# Altium integrated library Capacitor 0805.IntLib: 23 symbols
Pins are listed as number, name and electrical type; pins without a type are passive.

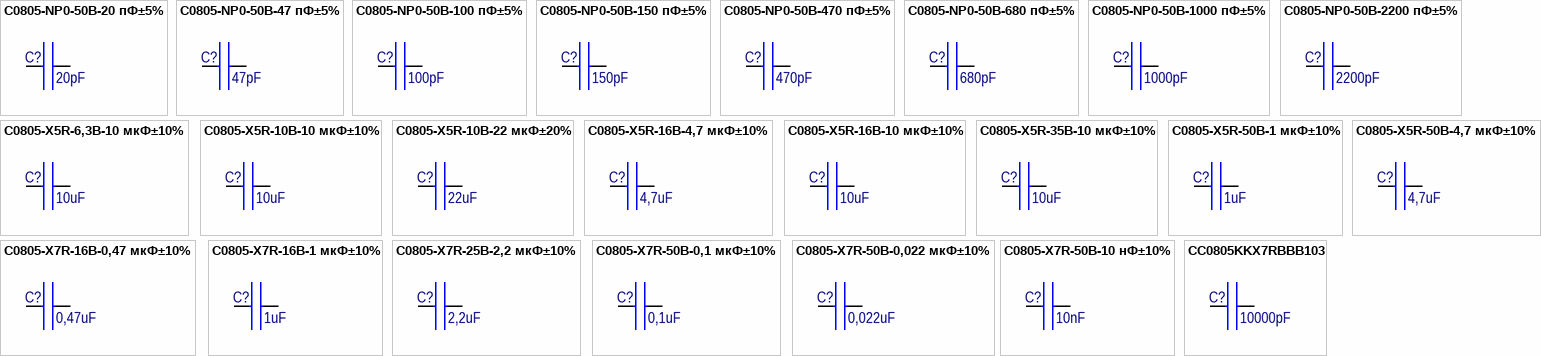
[diagram p0: symbols C0805-NP0-50В-20 пФ±5% to CC0805KKX7RBBB103]

## C0805-NP0-50В-20 пФ±5%
designator C?  value 20pF
CAP CER 20PF 50V 5% NP0 0805; Manufacturer: Murata Electronics; ManufacturerPartNumber: GQM2195C1H200J; Group: 9170; RegulationProcent: 10; TypeName: Конденсатор; Published: 07.08.2014; Publisher: Stanchik A; Distributor: Digi-Key; DistributorPartNumber: 490-3607-6-ND; LatestRevisionDate: 07.08.2014; Package: 2012 [0805]; Library: Capacitor 0805
footprint CAPC2012NX09  [0805] (Chip Capacitor, Body 2.0x1.3mm, IPC Medium Density)
pins: 1, 2

## C0805-NP0-50В-47 пФ±5%
designator C?  value 47pF
CAP CER 47PF 50V 5% NP0 0805; Manufacturer: Murata Electronics; ManufacturerPartNumber: GQM2195C1H470J; Group: 9170; RegulationProcent: 10; TypeName: Конденсатор; Published: 07.05.2014; Publisher: Stanchik A; Distributor: Digi-Key; DistributorPartNumber: 490-3612-6-ND; LatestRevisionDate: 10.07.2014; Package: 2012 [0805]; Library: Capacitor 0805
footprint CAPC2012NX09  [0805] (Chip Capacitor, Body 2.0x1.3mm, IPC Medium Density)
pins: 1, 2

## C0805-NP0-50В-100 пФ±5%
designator C?  value 100pF
CAP CER 100PF 50V 5% NP0 0805; Manufacturer: Murata Electronics; ManufacturerPartNumber: GRM2165C1H101J; Group: 9170; RegulationProcent: 10; TypeName: Конденсатор; Published: 07.05.2014; Publisher: Stanchik A; Distributor: Digi-Key; DistributorPartNumber: 490-1615-6-ND; LatestRevisionDate: 10.07.2014; Package: 2012 [0805]; Library: Capacitor 0805
footprint CAPC2012NX06  [0805] (Chip Capacitor, Body 2.0x1.3mm, IPC Medium Density)
pins: 1, 2

## C0805-NP0-50В-150 пФ±5%
designator C?  value 150pF
CAP CER 150PF 50V 5% NP0 0805; Manufacturer: Murata Electronics; ManufacturerPartNumber: GRM2165C1H151J; Group: 9170; RegulationProcent: 10; TypeName: Конденсатор; Published: 03.12.2014; Publisher: Stanchik A; Distributor: Digi-Key; DistributorPartNumber: 490-3315-1-ND; LatestRevisionDate: 03.12.2014; Package: 2012 [0805]; Library: Capacitor 0805
footprint CAPC2012NX06  [0805] (Chip Capacitor, Body 2.0x1.3mm, IPC Medium Density)
pins: 1, 2

## C0805-NP0-50В-470 пФ±5%
designator C?  value 470pF
CAP CER 470PF 50V 5% NP0 0805; Manufacturer: Murata Electronics; ManufacturerPartNumber: GRM2165C1H471J; Group: 9170; RegulationProcent: 10; TypeName: Конденсатор; Published: 07.05.2014; Publisher: Stanchik A; Distributor: Digi-Key; DistributorPartNumber: 490-1617-6-ND; LatestRevisionDate: 10.07.2014; Package: 2012 [0805]; Library: Capacitor 0805
footprint CAPC2012NX06  [0805] (Chip Capacitor, Body 2.0x1.3mm, IPC Medium Density)
pins: 1, 2

## C0805-NP0-50В-680 пФ±5%
designator C?  value 680pF
CAP CER 680PF 50V 5% NP0 0805; Manufacturer: Murata Electronics; ManufacturerPartNumber: GRM21BR71H105K; Group: 9170; RegulationProcent: 10; TypeName: Конденсатор; Published: 07.08.2014; Publisher: Stanchik A; Distributor: Digi-Key; DistributorPartNumber: 490-1619-6-ND; LatestRevisionDate: 07.08.2014; Package: 2012 [0805]; Library: Capacitor 0805
footprint CAPC2012NX13  [0805] (Chip Capacitor, Body 2.0x1.3mm, IPC Medium Density)
pins: 1, 2

## C0805-NP0-50В-1000 пФ±5%
designator C?  value 1000pF
CAP CER 1000PF 50V 5% NP0 0805; Manufacturer: Murata Electronics; ManufacturerPartNumber: GRM2165C1H102J; Group: 9170; RegulationProcent: 10; TypeName: Конденсатор; Published: 07.05.2014; Publisher: Stanchik A; Distributor: Digi-Key; DistributorPartNumber: 490-8285-6-ND; LatestRevisionDate: 10.07.2014; Package: 2012 [0805]; Library: Capacitor 0805
footprint CAPC2012NX06  [0805] (Chip Capacitor, Body 2.0x1.3mm, IPC Medium Density)
pins: 1, 2

## C0805-NP0-50В-2200 пФ±5%
designator C?  value 2200pF
CAP CER 2200PF 50V C0G/NP0 0805; Manufacturer: Murata Electronics; ManufacturerPartNumber: GRM2165C1H222J; Group: 9170; RegulationProcent: 10; TypeName: Конденсатор; Published: 06.06.2017; Publisher: Stanchik A; Distributor: Digi-Key; DistributorPartNumber: 490-1628-1-ND; LatestRevisionDate: 06.06.2017; Package: 2012 [0805]; Library: Capacitor 0805
footprint CAPC2012NX06  [0805] (Chip Capacitor, Body 2.0x1.3mm, IPC Medium Density)
pins: 1, 2

## C0805-X5R-6,3В-10 мкФ±10%
designator C?  value 10uF
CAP CER 10UF 6.3V X5R 0805; Manufacturer: Murata Electronics; ManufacturerPartNumber: GRM219R60J106K; Group: 9170; RegulationProcent: 10; TypeName: Конденсатор; Published: 28.04.2017; Publisher: Stanchik A; Distributor: Digi-Key; DistributorPartNumber: 490-3340-1-ND; LatestRevisionDate: 28.04.2017; Package: 2012 [0805]; Library: Capacitor 0805
footprint CAPC2012NX09  [0805] (Chip Capacitor, Body 2.0x1.3mm, IPC Medium Density)
pins: 1, 2

## C0805-X5R-10В-10 мкФ±10%
designator C?  value 10uF
CAP CER 10UF 10V X5R 0805; Manufacturer: Murata Electronics; ManufacturerPartNumber: GRM21BR61A106K; Group: 9170; RegulationProcent: 10; TypeName: Конденсатор; Published: 02.05.2017; Publisher: Stanchik A; Distributor: Digi-Key; DistributorPartNumber: 490-6472-1-ND; LatestRevisionDate: 02.05.2017; Package: 2012 [0805]; Library: Capacitor 0805
footprint CAPC2012NX13  [0805] (Chip Capacitor, Body 2.0x1.3mm, IPC Medium Density)
pins: 1, 2

## C0805-X5R-10В-22 мкФ±20%
designator C?  value 22uF
CAP CER 22UF 10V X5R 0805; Manufacturer: Murata Electronics; ManufacturerPartNumber: GRM21BR61A226M; Group: 9170; RegulationProcent: 10; TypeName: Конденсатор; Published: 02.05.2017; Publisher: Stanchik A; Distributor: Digi-Key; DistributorPartNumber: 490-10746-1-ND; LatestRevisionDate: 02.05.2017; Package: 2012 [0805]; Library: Capacitor 0805
footprint CAPC2012NX13  [0805] (Chip Capacitor, Body 2.0x1.3mm, IPC Medium Density)
pins: 1, 2

## C0805-X5R-16В-4,7 мкФ±10%
designator C?  value 4,7uF
CAP CER 4.7UF 16V 10% X5R 0805; Manufacturer: Murata Electronics; ManufacturerPartNumber: GRM21BR61C475K; Group: 9170; RegulationProcent: 10; TypeName: Конденсатор; Published: 05.08.2014; Publisher: Stanchik A; Distributor: Digi-Key; DistributorPartNumber: 490-3338-6-ND; LatestRevisionDate: 05.08.2014; Package: 2012 [0805]; Library: Capacitor 0805
footprint CAPC2012NX13  [0805] (Chip Capacitor, Body 2.0x1.3mm, IPC Medium Density)
pins: 1, 2

## C0805-X5R-16В-10 мкФ±10%
designator C?  value 10uF
CAP CER 10UF 16V X5R 0805; Manufacturer: Murata Electronics; ManufacturerPartNumber: GRM21BR61C106K; Group: 9170; RegulationProcent: 10; TypeName: Конденсатор; Published: 28.04.2017; Publisher: Stanchik A; Distributor: Digi-Key; DistributorPartNumber: 490-6473-1-ND; LatestRevisionDate: 28.04.2017; Package: 2012 [0805]; Library: Capacitor 0805
footprint CAPC2012NX13  [0805] (Chip Capacitor, Body 2.0x1.3mm, IPC Medium Density)
pins: 1, 2

## C0805-X5R-35В-10 мкФ±10%
designator C?  value 10uF
CAP CER 10UF 35V 10% X5R 0805; Manufacturer: TDK Corporation; ManufacturerPartNumber: C2012X5R1V106K085AC; Group: 9170; RegulationProcent: 10; TypeName: Конденсатор; Published: 05.08.2014; Publisher: Stanchik A; Distributor: Digi-Key; DistributorPartNumber: 445-14417-6-ND; LatestRevisionDate: 05.08.2014; Package: 2012 [0805]; Library: Capacitor 0805
footprint CAPC2012NX09  [0805] (Chip Capacitor, Body 2.0x1.3mm, IPC Medium Density)
pins: 1, 2

## C0805-X5R-50В-1 мкФ±10%
designator C?  value 1uF
CAP CER 1UF 50V X5R 0805; Manufacturer: Murata Electronics; ManufacturerPartNumber: GRM219R61H105K; Group: 9170; RegulationProcent: 10; TypeName: Конденсатор; Published: 12.07.2017; Publisher: Stanchik A; Distributor: Digi-Key; DistributorPartNumber: 490-10743-1-ND; LatestRevisionDate: 12.07.2017; Package: 2012 [0805]; Library: Capacitor 0805
footprint CAPC2012NX09  [0805] (Chip Capacitor, Body 2.0x1.3mm, IPC Medium Density)
pins: 1, 2

## C0805-X5R-50В-4,7 мкФ±10%
designator C?  value 4,7uF
CAP CER 4.7UF 50V X5R 0805; Manufacturer: Murata Electronics; ManufacturerPartNumber: GRM21BR61H475K; Group: 9170; RegulationProcent: 10; TypeName: Конденсатор; Published: 11.12.2017; Publisher: Stanchik A; Distributor: Digi-Key; DistributorPartNumber: 490-10751-1-ND; LatestRevisionDate: 11.12.2017; Package: 2012 [0805]; Library: Capacitor 0805
footprint CAPC2012NX13  [0805] (Chip Capacitor, Body 2.0x1.3mm, IPC Medium Density)
pins: 1, 2

## C0805-X7R-16В-0,47 мкФ±10%
designator C?  value 0,47uF
CAP CER 0.47UF 16V 10% X7R 0805; Manufacturer: Murata Electronics; ManufacturerPartNumber: GRM21BR71C474K; Group: 9170; RegulationProcent: 10; TypeName: Конденсатор; Published: 07.08.2014; Publisher: Stanchik A; Distributor: Digi-Key; DistributorPartNumber: 490-3333-6-ND; LatestRevisionDate: 07.08.2014; Package: 2012 [0805]; Library: Capacitor 0805
footprint CAPC2012NX13  [0805] (Chip Capacitor, Body 2.0x1.3mm, IPC Medium Density)
pins: 1, 2

## C0805-X7R-16В-1 мкФ±10%
designator C?  value 1uF
CAP CER 1UF 16V X7R 0805; Manufacturer: Murata Electronics; ManufacturerPartNumber: GRM21BR71C105K; Group: 9170; RegulationProcent: 10; TypeName: Конденсатор; Published: 08.02.2018; Publisher: Stanchik A; Distributor: Digi-Key; DistributorPartNumber: 490-1691-1-ND; LatestRevisionDate: 08.02.2018; Package: 2012 [0805]; Library: Capacitor 0805
footprint CAPC2012NX13  [0805] (Chip Capacitor, Body 2.0x1.3mm, IPC Medium Density)
pins: 1, 2

## C0805-X7R-25В-2,2 мкФ±10%
designator C?  value 2,2uF
CAP CER 2.2UF 25V 10% X7R 0805; Manufacturer: Murata Electronics; ManufacturerPartNumber: GRM21BR71E225K; Group: 9170; RegulationProcent: 10; TypeName: Конденсатор; Published: 07.05.2014; Publisher: Stanchik AF; Distributor: Digi-Key; DistributorPartNumber: 490-3331-6-ND; LatestRevisionDate: 07.05.2014; Package: 2012 [0805]; Library: Capacitor 0805
footprint CAPC2012NX13  [0805] (Chip Capacitor, Body 2.0x1.3mm, IPC Medium Density)
pins: 1, 2

## C0805-X7R-50В-0,1 мкФ±10%
designator C?  value 0,1uF
CAP CER 0.1UF 50V 10% X7R 0805; Manufacturer: Murata Electronics; ManufacturerPartNumber: GCM21BR71H104K; Group: 9170; RegulationProcent: 10; TypeName: Конденсатор; Published: 07.08.2014; Publisher: Stanchik A; Distributor: Digi-Key; DistributorPartNumber: 490-6064-6-ND; LatestRevisionDate: 07.08.2014; Package: 2012 [0805]; Library: Capacitor 0805
footprint CAPC2012NX13  [0805] (Chip Capacitor, Body 2.0x1.3mm, IPC Medium Density)
pins: 1, 2

## C0805-X7R-50В-0,022 мкФ±10%
designator C?  value 0,022uF
CAP CER 0.022UF 50V 10% X7R 0805; Manufacturer: Murata Electronics; ManufacturerPartNumber: GRM216R71H223K; Group: 9170; RegulationProcent: 10; TypeName: Конденсатор; Published: 07.08.2014; Publisher: Stanchik A; Distributor: Digi-Key; DistributorPartNumber: 490-1665-6-ND; LatestRevisionDate: 07.08.2014; Package: 2012 [0805]; Library: Capacitor 0805
footprint CAPC2012NX06  [0805] (Chip Capacitor, Body 2.0x1.3mm, IPC Medium Density)
pins: 1, 2

## C0805-X7R-50В-10 нФ±10%
designator C?  value 10nF
CAP CER 10000PF 50V 10% X7R 0805; Manufacturer: Murata Electronics; ManufacturerPartNumber: GRM216R71H103K; Group: 9170; RegulationProcent: 10; TypeName: Конденсатор; Published: 22.07.2014; Publisher: Stanchik A; Distributor: Digi-Key; DistributorPartNumber: 490-1664-6-ND; LatestRevisionDate: 22.07.2014; Package: 2012 [0805]; Library: Capacitor 0805
footprint CAPC2012NX06  [0805] (Chip Capacitor, Body 2.0x1.3mm, IPC Medium Density)
pins: 1, 2

## CC0805KKX7RBBB103
designator C?, comment value 10000pF  (hidden comment: C 0805)
CAP CER 10000PF 500V X7R 080; Manufacturer: Yageo; ManufacturerPartNumber: CC0805KKX7RBBB103; Group: 9170; RegulationProcent: 10; TypeName: Конденсатор; Published: 08.07.2013; Publisher: Konon DI; Distributor: Farnell; DistributorPartNumber: 1284130; LatestRevisionDate: 19.11.2013; Package: 2012 [0805]; Library: Capacitor 0805
footprint HV CAPC2012N  [0805] (Chip Capacitor, Body 2.0x1.3mm, High Voltage 500V)
pins: 1, 2